# Altium schematic symbol library Mechanical.SchLib: 4 symbols
Pins are listed as number, name and electrical type; pins without a type are passive.

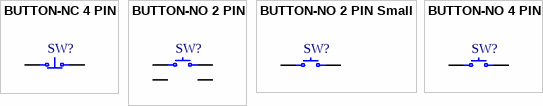
[diagram p0: symbols BUTTON-NC 4 PIN to BUTTON-NO 4 PIN]

## BUTTON-NC 4 PIN
designator SW?, comment BUTTON-NC  (value not drawn)
Button
pins: 1, 2, 3, 4

## BUTTON-NO 2 PIN
designator SW?, comment BUTTON-NO  (value not drawn)
Button
footprint SW TACT (SWITCH)
pins: 1, 2, 3, 4

## BUTTON-NO 2 PIN Small
designator SW?, comment BUTTON-NO  (value not drawn)
Button, SMD, Small, 2.5x3mm
footprint SW OMRON (SWITCH, OMRON, SMALL)
pins: 1, 2

## BUTTON-NO 4 PIN
designator SW?, comment BUTTON-NO  (value not drawn)
Button
pins: 1, 2, 3, 4